# EAGLE library part EF86C (library tubes)
EF86: Audio pentode tube (Svetlana) Heater 6.3V/200mA, 300V Ua, 1W Qmax with case pin
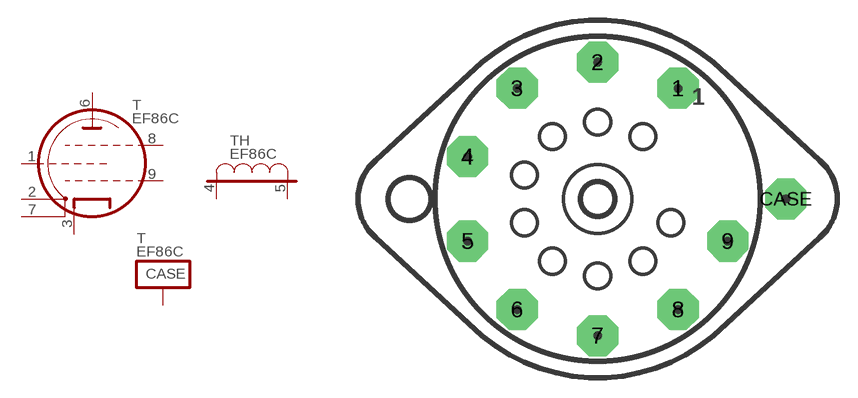
[diagram p4: symbol with the pads of NOVAL-C; footprint NOVAL-C]

Designator prefix T; gates  =EF86 H=EL84H C=CASE

## EF86C  [NOVAL-C]
1   :G2  in
2   :IS1
3   :C
4  H:H1
5  H:H2
6   :A
7   :IS2
8   :G3
9   :G1
CASE  C:CASE  pas

## Footprint NOVAL-C (pad centres in mm)
Vacuum tube socket, 9 pins with case pin
drill 1.6 pad 3.048 octagon: 1 5.972,8.22; 2 0,10.16; 3 -5.972,8.22; 4 -9.663,3.14; 5 -9.663,-3.14; 6 -5.972,-8.22; 7 0,-10.16; 8 5.972,-8.22; 9 9.663,-3.14
drill 1.194 pad 3.048 octagon: CASE 13.97,0
hole 3.2 at -13.97,0